# EAGLE library part LTM8055* (library micro-analog-devices)
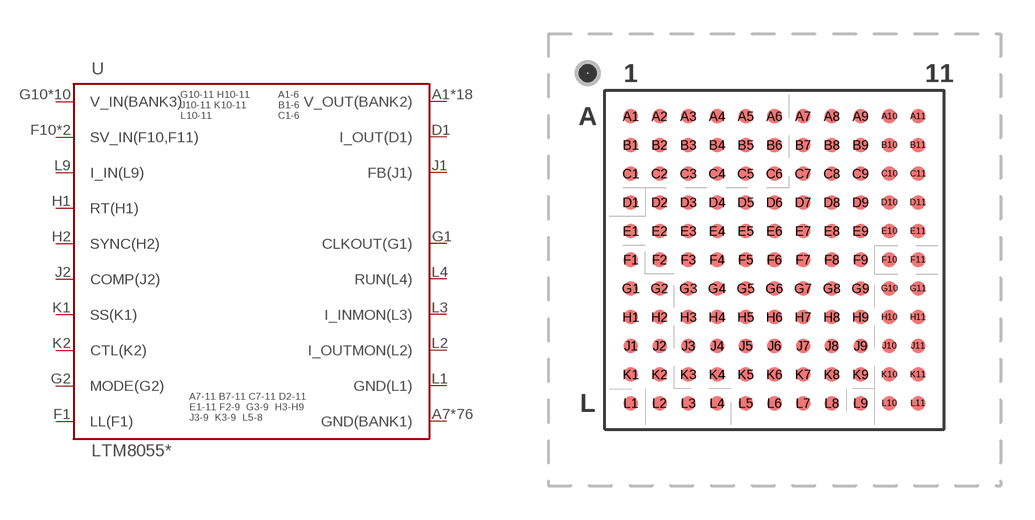
[diagram p1: symbol with the pads of BGA121; footprint BGA121]

Designator prefix U

## LTM8055EY#PBF (MFG: Analog Devices; MPN: LTM8055EY#PBF; OPERATING_TEMP: 0 to +125C; PACKAGE: BGA121; TEMP_RANGE: -55 to +125C; VALUE: LTM8055), LTM8055EY-1#PBF (MFG: Analog Devices; MPN: LTM8055EY-1#PBF; OPERATING_TEMP: 0 to +125C; PACKAGE: BGA121; TEMP_RANGE: -55 to +125C; VALUE: LTM8055), LTM8055IY (MFG: Analog Devices; MPN: LTM8055IY; OPERATING_TEMP: -40 to +125C; PACKAGE: BGA121; TEMP_RANGE: -55 to +125C; VALUE: LTM8055), LTM8055IY#PBF (MFG: Analog Devices; MPN: LTM8055IY#PBF; OPERATING_TEMP: -40 to +125C; PACKAGE: BGA121; TEMP_RANGE: -55 to +125C; VALUE: LTM8055), LTM8055IY-1#PBF (MFG: Analog Devices; MPN: LTM8055IY-1#PBF; OPERATING_TEMP: -40 to +125C; PACKAGE: BGA121; TEMP_RANGE: -55 to +125C; VALUE: LTM8055), LTM8055MPY (MFG: Analog Devices; MPN: LTM8055MPY; OPERATING_TEMP: -55 to +125C; PACKAGE: BGA121; TEMP_RANGE: -55 to +125C; VALUE: LTM8055), LTM8055MPY#PBF (MFG: Analog Devices; MPN: LTM8055MPY#PBF; OPERATING_TEMP: -55 to +125C; PACKAGE: BGA121; TEMP_RANGE: -55 to +125C; VALUE: LTM8055)  [BGA121]
A1  V_OUT(BANK2)
A2  V_OUT(BANK2)
A3  V_OUT(BANK2)
A4  V_OUT(BANK2)
A5  V_OUT(BANK2)
A6  V_OUT(BANK2)
A7  GND(BANK1)
A8  GND(BANK1)
A9  GND(BANK1)
A10  GND(BANK1)
A11  GND(BANK1)
B1  V_OUT(BANK2)
B2  V_OUT(BANK2)
B3  V_OUT(BANK2)
B4  V_OUT(BANK2)
B5  V_OUT(BANK2)
B6  V_OUT(BANK2)
B7  GND(BANK1)
B8  GND(BANK1)
B9  GND(BANK1)
B10  GND(BANK1)
B11  GND(BANK1)
C1  V_OUT(BANK2)
C2  V_OUT(BANK2)
C3  V_OUT(BANK2)
C4  V_OUT(BANK2)
C5  V_OUT(BANK2)
C6  V_OUT(BANK2)
C7  GND(BANK1)
C8  GND(BANK1)
C9  GND(BANK1)
C10  GND(BANK1)
C11  GND(BANK1)
D1  I_OUT(D1)
D2  GND(BANK1)
D3  GND(BANK1)
D4  GND(BANK1)
D5  GND(BANK1)
D6  GND(BANK1)
D7  GND(BANK1)
D8  GND(BANK1)
D9  GND(BANK1)
D10  GND(BANK1)
D11  GND(BANK1)
E1  GND(BANK1)
E2  GND(BANK1)
E3  GND(BANK1)
E4  GND(BANK1)
E5  GND(BANK1)
E6  GND(BANK1)
E7  GND(BANK1)
E8  GND(BANK1)
E9  GND(BANK1)
E10  GND(BANK1)
E11  GND(BANK1)
F1  LL(F1)
F2  GND(BANK1)
F3  GND(BANK1)
F4  GND(BANK1)
F5  GND(BANK1)
F6  GND(BANK1)
F7  GND(BANK1)
F8  GND(BANK1)
F9  GND(BANK1)
F10  SV_IN(F10,F11)
F11  SV_IN(F10,F11)
G1  CLKOUT(G1)
G2  MODE(G2)
G3  GND(BANK1)
G4  GND(BANK1)
G5  GND(BANK1)
G6  GND(BANK1)
G7  GND(BANK1)
G8  GND(BANK1)
G9  GND(BANK1)
G10  V_IN(BANK3)
G11  V_IN(BANK3)
H1  RT(H1)
H2  SYNC(H2)
H3  GND(BANK1)
H4  GND(BANK1)
H5  GND(BANK1)
H6  GND(BANK1)
H7  GND(BANK1)
H8  GND(BANK1)
H9  GND(BANK1)
H10  V_IN(BANK3)
H11  V_IN(BANK3)
J1  FB(J1)
J2  COMP(J2)
J3  GND(BANK1)
J4  GND(BANK1)
J5  GND(BANK1)
J6  GND(BANK1)
J7  GND(BANK1)
J8  GND(BANK1)
J9  GND(BANK1)
J10  V_IN(BANK3)
J11  V_IN(BANK3)
K1  SS(K1)
K2  CTL(K2)
K3  GND(BANK1)
K4  GND(BANK1)
K5  GND(BANK1)
K6  GND(BANK1)
K7  GND(BANK1)
K8  GND(BANK1)
K9  GND(BANK1)
K10  V_IN(BANK3)
K11  V_IN(BANK3)
L1  GND(L1)
L2  I_OUTMON(L2)
L3  I_INMON(L3)
L4  RUN(L4)
L5  GND(BANK1)
L6  GND(BANK1)
L7  GND(BANK1)
L8  GND(BANK1)
L9  I_IN(L9)
L10  V_IN(BANK3)
L11  V_IN(BANK3)

## Footprint BGA121 (pad centres in mm)
smd 0.635 x 0.635: A1 -6.35,6.35; A2 -5.08,6.35; A3 -3.81,6.35; A4 -2.54,6.35; A5 -1.27,6.35; A6 0,6.35; A7 1.27,6.35; A8 2.54,6.35; A9 3.81,6.35; A10 5.08,6.35; A11 6.35,6.35; B1 -6.35,5.08; B2 -5.08,5.08; B3 -3.81,5.08; B4 -2.54,5.08; B5 -1.27,5.08; B6 0,5.08; B7 1.27,5.08; B8 2.54,5.08; B9 3.81,5.08; B10 5.08,5.08; B11 6.35,5.08; C1 -6.35,3.81; C2 -5.08,3.81; C3 -3.81,3.81; C4 -2.54,3.81; C5 -1.27,3.81; C6 0,3.81; C7 1.27,3.81; C8 2.54,3.81; C9 3.81,3.81; C10 5.08,3.81; C11 6.35,3.81; D1 -6.35,2.54; D2 -5.08,2.54; D3 -3.81,2.54; D4 -2.54,2.54; D5 -1.27,2.54; D6 0,2.54; D7 1.27,2.54; D8 2.54,2.54; D9 3.81,2.54; D10 5.08,2.54; D11 6.35,2.54; E1 -6.35,1.27; E2 -5.08,1.27; E3 -3.81,1.27; E4 -2.54,1.27; E5 -1.27,1.27; E6 0,1.27; E7 1.27,1.27; E8 2.54,1.27; E9 3.81,1.27; E10 5.08,1.27; E11 6.35,1.27; F1 -6.35,0; F2 -5.08,0; F3 -3.81,0; F4 -2.54,0; F5 -1.27,0; F6 0,0; F7 1.27,0; F8 2.54,0; F9 3.81,0; F10 5.08,0; F11 6.35,0; G1 -6.35,-1.27; G2 -5.08,-1.27; G3 -3.81,-1.27; G4 -2.54,-1.27; G5 -1.27,-1.27; G6 0,-1.27; G7 1.27,-1.27; G8 2.54,-1.27; G9 3.81,-1.27; G10 5.08,-1.27; G11 6.35,-1.27; H1 -6.35,-2.54; H2 -5.08,-2.54; H3 -3.81,-2.54; H4 -2.54,-2.54; H5 -1.27,-2.54; H6 0,-2.54; H7 1.27,-2.54; H8 2.54,-2.54; H9 3.81,-2.54; H10 5.08,-2.54; H11 6.35,-2.54; J1 -6.35,-3.81; J2 -5.08,-3.81; J3 -3.81,-3.81; J4 -2.54,-3.81; J5 -1.27,-3.81; J6 0,-3.81; J7 1.27,-3.81; J8 2.54,-3.81; J9 3.81,-3.81; J10 5.08,-3.81; J11 6.35,-3.81; K1 -6.35,-5.08; K2 -5.08,-5.08; K3 -3.81,-5.08; K4 -2.54,-5.08; K5 -1.27,-5.08; K6 0,-5.08; K7 1.27,-5.08; K8 2.54,-5.08; K9 3.81,-5.08; K10 5.08,-5.08; K11 6.35,-5.08; L1 -6.35,-6.35; L2 -5.08,-6.35; L3 -3.81,-6.35; L4 -2.54,-6.35; L5 -1.27,-6.35; L6 0,-6.35; L7 1.27,-6.35; L8 2.54,-6.35; L9 3.81,-6.35; L10 5.08,-6.35; L11 6.35,-6.35